# Altium schematic symbol library EL-sense_Translation_Voltage_Levels.SchLib: 3 symbols
Pins are listed as number, name and electrical type; pins without a type are passive.

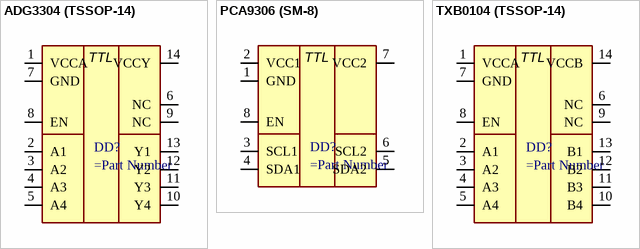
[diagram p0: symbols ADG3304 (TSSOP-14) to TXB0104 (TSSOP-14)]

## ADG3304 (TSSOP-14)
designator DD?
pins: 1 VCCA, 2 A1, 3 A2, 4 A3, 5 A4, 6 NC, 7 GND, 8 EN, 9 NC, 10 Y4, 11 Y3, 12 Y2, 13 Y1, 14 VCCY
text: TTL

## PCA9306 (SM-8)
designator DD?
pins: 1 GND, 2 VCC1, 3 SCL1, 4 SDA1, 5 SDA2, 6 SCL2, 7 VCC2, 8 EN
text: TTL

## TXB0104 (TSSOP-14)
designator DD?
pins: 1 VCCA, 2 A1, 3 A2, 4 A3, 5 A4, 6 NC, 7 GND, 8 EN, 9 NC, 10 B4, 11 B3, 12 B2, 13 B1, 14 VCCB
text: TTL